# Altium schematic symbol library ADC Audio.SchLib: 2 symbols
Pins are listed as number, name and electrical type; pins without a type are passive.

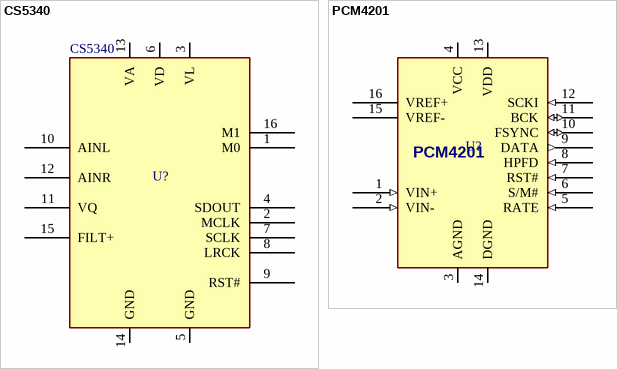
[diagram p0: symbols CS5340 to PCM4201]

## CS5340
designator U?
IC ADC AUDIO, 2 CH, 24-BIT, 192KHz, 101dB; MANF_P#: CS5340-DZ; MANF: Cirrus Logic; VALUE: CS5340
footprint SOG65_16 (PW TSSOP (TI), MO-153-AB (JEDEC), 16Lead, pitch: 0.65mm, 5x4.4x1.2mm)
pins: 1 M0, 2 MCLK, 3 VL, 4 SDOUT, 5 GND, 6 VD, 7 SCLK, 8 LRCK, 9 RST#, 10 AINL, 11 VQ, 12 AINR, 13 VA, 14 GND, 15 FILT+, 16 M1

## PCM4201
designator U?  (value not drawn)
IC ADC AUDIO, 1 CH, 24-BIT, 108KHz, 112dB; MANF: Texas Instruments; MANF_P#: PCM4201; VALUE: PCM4201
footprint SOG65_16 (PW TSSOP (TI), MO-153-AB (JEDEC), 16Lead, pitch: 0.65mm, 5x4.4x1.2mm)
pins: 1 VIN+ (in), 2 VIN- (in), 3 AGND (power), 4 VCC (power), 5 RATE (in), 6 S/M# (in), 7 RST# (in), 8 HPFD (in), 9 DATA (out), 10 FSYNC (io), 11 BCK (io), 12 SCKI (in), 13 VDD (power), 14 DGND (power), 15 VREF- (power), 16 VREF+ (power)